# Altium integrated library SPX3819.IntLib: 1 symbol
Pins are listed as number, name and electrical type; pins without a type are passive.

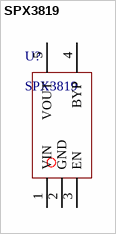
[diagram p0: symbol SPX3819]

## SPX3819
designator U?
footprint SPX3819(SOT95P280X145-5N) (SOT23, 5-Leads, Body 2.9x2.8mm (max), Pitch 0.95mm, IPC Medium Density)
pins: 1 VIN, 2 GND, 3 EN, 4 BYP, 5 VOUT